# Altium footprint library PcbLib1.PcbLib: 18 footprints (part 1 of 2)
Each footprint in its own frame and in the unit in brackets; x right, y up, seen from the top. Pads: shape width x height; smd on the part's side, far side on the other; paste and mask are expansions set on the pad; w line width, h text height; cw(c..) or ccw(c..) is an arc to the next point about the centre after c.
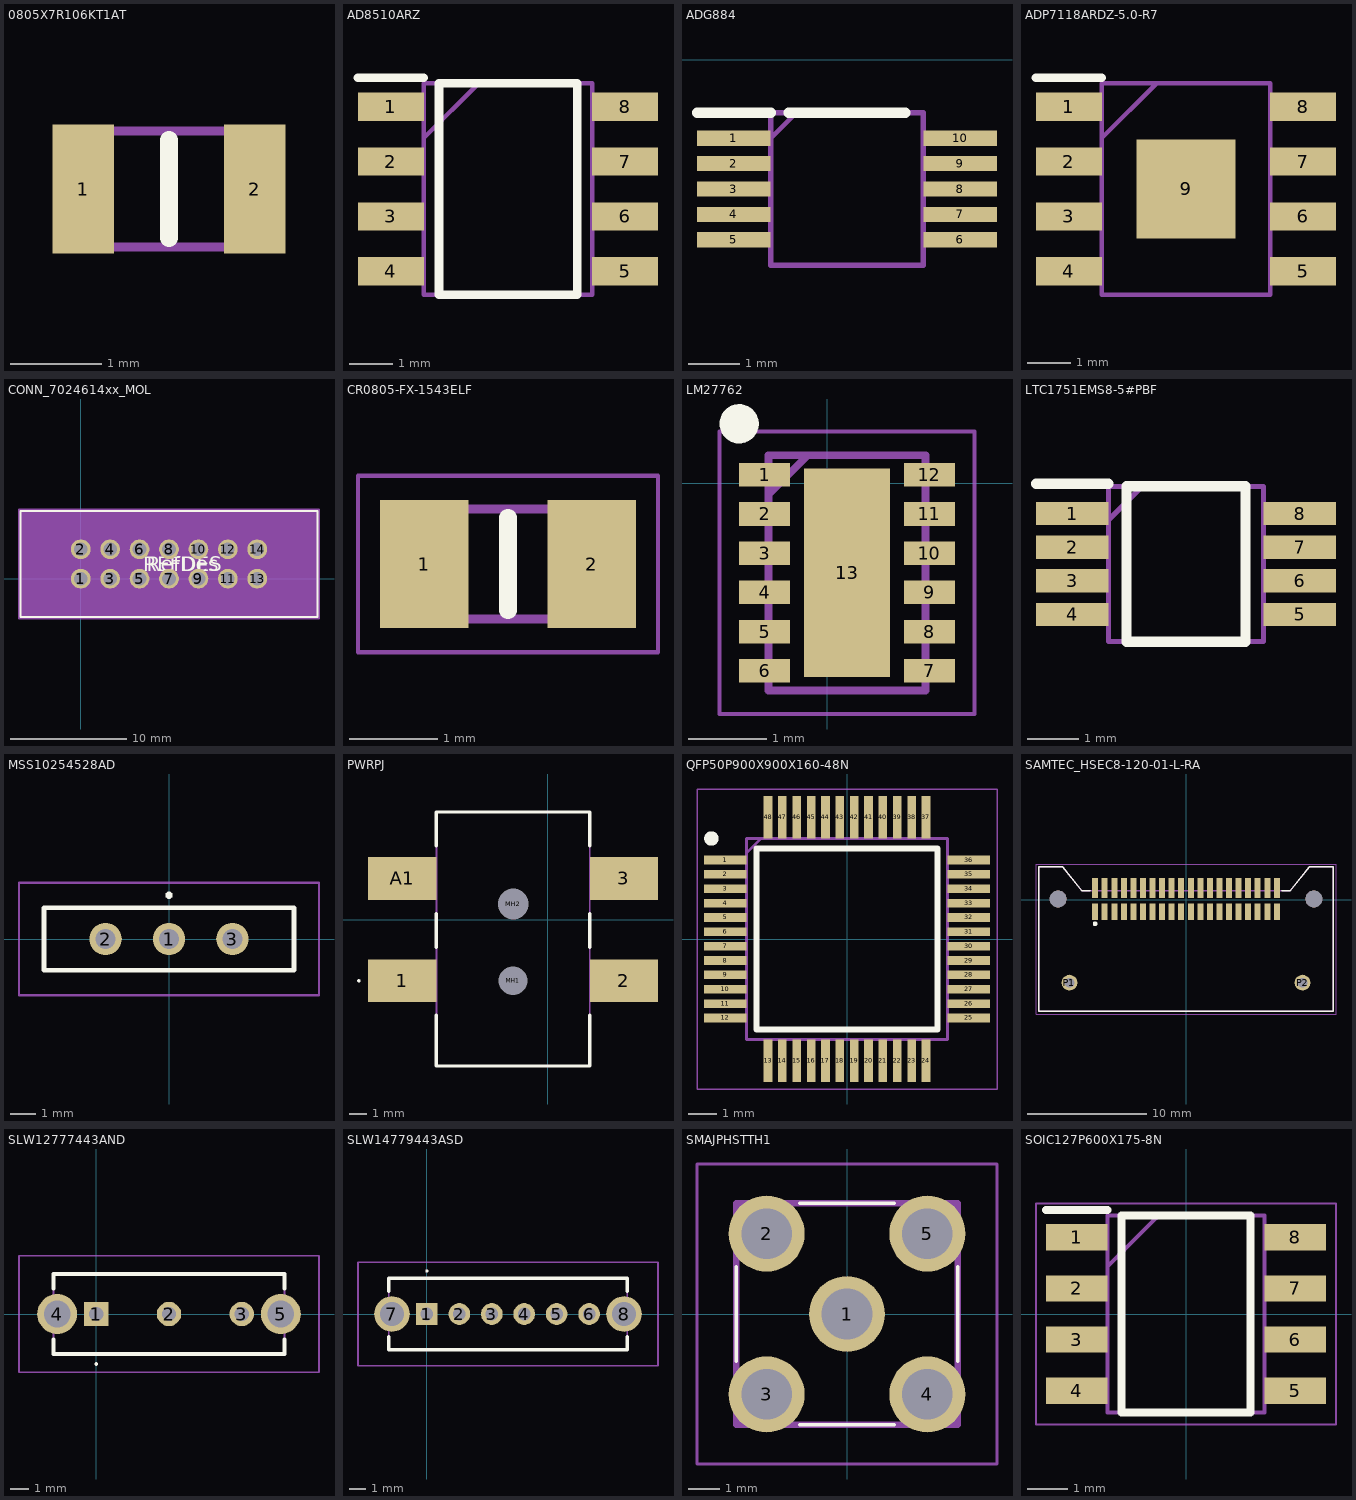
[diagram p0: the footprints below, top view; thin cyan lines are the x and y axes]

## 0805X7R106KT1AT [mm]
pads (2):
  rect 0.67x1.41 smd: 1(-336.22,87.503) 2(-334.34,87.503)
Top Overlay:
  lines w0.2: -335.28,86.968 -335.28,88.038
Mechanical 15:
  lines w0.1: -336.285,86.868 -334.275,86.868 -334.275,88.138 -336.285,88.138 -336.285,86.868
3D body "0805X7R106KT1AT.stp": height 1.13, standoff 0, extent -336.285,86.868 -334.275,88.138

## AD8510ARZ [mm]
pads (8):
  rect 1.525x0.65 smd: 1(-152.318,-23.241) 2(-152.318,-24.511) 3(-152.318,-25.781) 4(-152.318,-27.051) 5(-146.894,-27.051) 6(-146.894,-25.781) 7(-146.894,-24.511) 8(-146.894,-23.241)
Top Overlay:
  lines w0.2: -153.081,-22.566 -151.556,-22.566 ; -151.206,-27.596 -151.206,-22.696 -148.006,-22.696 -148.006,-27.596 -151.206,-27.596
Mechanical 15:
  lines w0.1: -151.556,-23.966 -150.286,-22.696 ; -151.556,-27.596 -151.556,-22.696 -147.656,-22.696 -147.656,-27.596 -151.556,-27.596
3D body "AD8510ARZ-REEL.stp": height 1.75, standoff 0, extent -152.733,-27.596 -146.733,-22.696

## ADG884 [mm]
pads (10):
  rect 1.45x0.3 smd: 1(3.49,-1.54) 2(3.49,-2.04) 3(3.49,-2.54) 4(3.49,-3.04) 5(3.49,-3.54) 6(7.94,-3.54) 7(7.94,-3.04) 8(7.94,-2.54) 9(7.94,-2.04) 10(7.94,-1.54)
Top Overlay:
  lines w0.2: 2.765,-1.04 4.215,-1.04 ; 4.565,-1.04 6.865,-1.04
Mechanical 15:
  lines w0.1: 4.215,-1.54 4.715,-1.04 ; 4.215,-4.04 7.215,-4.04 7.215,-1.04 4.215,-1.04 4.215,-4.04
3D body "ADG884BRMZ.stp": height 1.1, standoff 0, extent 3.265,-4.04 8.165,-1.04

## ADP7118ARDZ-5.0-R7 [mm]
pads (9):
  rect 1.525x0.65 smd: 1(1.987,-9.652) 2(1.987,-10.922) 3(1.987,-12.192) 4(1.987,-13.462) 5(7.411,-13.462) 6(7.411,-12.192) 7(7.411,-10.922) 8(7.411,-9.652)
  rect 2.29x2.29 smd: 9(4.699,-11.557)
Top Overlay:
  lines w0.2: 1.224,-8.977 2.749,-8.977
Mechanical 15:
  lines w0.1: 2.749,-10.377 4.019,-9.107 ; 2.749,-14.007 6.649,-14.007 6.649,-9.107 2.749,-9.107 2.749,-14.007
3D body "ADP7118ARDZ-5.0-R7.stp": height 0.85, standoff -0.9, extent 1.699,-13.97 7.699,-9.07

## CONN_7024614xx_MOL [mil]
pads (14):
  round 67 / inner round 60 / far side round 67 hole 47 paste-33.5 mask+0: 1(0,0) 2(0,100) 3(100,0) 4(100,100) 5(200,0) 6(200,100) 7(300,0) 8(300,100) 9(400,0) 10(400,100) 11(500,0) 12(500,100) 13(600,0) 14(600,100)
Top Overlay:
  lines w6: -205,-130 805,-130 805,230 -205,230 -205,-130
  text "RefDes" at 225,25 h50
  text "REFDES" at 212.5,25 h50
Mechanical 13:
  circle w20: c0,0 r15
  lines w1: -200,-125 800,-125 800,225 -200,225 -200,-125
  text "RefDes2" at 212.5,25 h50
Mechanical 15:
  region: 810,235 -210,235 -210,-135 810,-135
  lines w6: -210,-135 -210,235 810,235 810,-135 -210,-135
3D body "702461401.stp": height 279.96, standoff -220, extent -205,-125 795,225

## CR0805-FX-1543ELF [mm]
pads (2):
  rect 1x1.45 smd: 1(-53.274,37.084) 2(-51.374,37.084)
Top Overlay:
  lines w0.2: -52.324,36.559 -52.324,37.609
Mechanical 15:
  lines w0.1: -53.324,36.459 -53.324,37.709 -51.324,37.709 -51.324,36.459 -53.324,36.459
Mechanical 20:
  lines w0.05: -54.024,36.084 -54.024,38.084 -50.624,38.084 -50.624,36.084 -54.024,36.084
3D body "CR0805-FX-1543ELF.stp": height 0.6, standoff 0, extent -53.324,36.459 -51.324,37.709

## LM27762 [mm]
pads (13):
  rect 0.65x0.3 smd: 1(-0.796,0.107) 2(-0.796,-0.393) 3(-0.796,-0.893) 4(-0.796,-1.393) 5(-0.796,-1.893) 6(-0.796,-2.393) 7(1.304,-2.393) 8(1.304,-1.893) 9(1.304,-1.393) 10(1.304,-0.893) 11(1.304,-0.393) 12(1.304,0.107)
  rect 1.1x2.66 smd: 13(0.254,-1.143)
Top Overlay:
  circle w0.25: c-1.121,0.757 r0.125
Mechanical 15:
  lines w0.1: -0.746,-0.143 -0.246,0.357 ; -0.746,-2.643 1.254,-2.643 1.254,0.357 -0.746,0.357 -0.746,-2.643
Mechanical 20:
  lines w0.05: -1.371,-2.943 1.879,-2.943 1.879,0.657 -1.371,0.657 -1.371,-2.943
3D body "LM27762DSSR.stp": height 0.8, standoff 0, extent -0.796,-2.643 1.304,0.357

## LTC1751EMS8-5#PBF [mm]
pads (8):
  rect 1.4x0.45 smd: 1(3.943,-2.564) 2(3.943,-3.214) 3(3.943,-3.864) 4(3.943,-4.514) 5(8.343,-4.514) 6(8.343,-3.864) 7(8.343,-3.214) 8(8.343,-2.564)
Top Overlay:
  lines w0.2: 3.243,-1.989 4.643,-1.989 ; 4.993,-5.039 4.993,-2.039 7.293,-2.039 7.293,-5.039 4.993,-5.039
Mechanical 15:
  lines w0.1: 4.643,-2.689 5.293,-2.039 ; 4.643,-5.039 4.643,-2.039 7.643,-2.039 7.643,-5.039 4.643,-5.039

## MSS10254528AD [mm]
pads (3):
  round 1.3 hole 0.8: 1(0,0) 2(-2.54,0) 3(2.54,0)
Top Overlay:
  lines w0.2: 0,1.7 cw(c0,1.75) 0,1.8 ; 0,1.7 ccw(c0,1.75) 0,1.8 ; 0,1.7 cw(c0,1.75) 0,1.8 ; -5,-1.25 5,-1.25 5,1.25 -5,1.25 -5,-1.25
Mechanical 15:
  lines w0.1: -5,-1.25 5,-1.25 5,1.25 -5,1.25 -5,-1.25
Mechanical 20:
  lines w0.1: -6,-2.25 6,-2.25 6,2.25 -6,2.25 -6,-2.25
3D body "MSS-102545-28A-D.stp": height 7.3, standoff -5.5, extent -5,-1.25 5,1.25

## PWRPJ [mm]
pads (6):
  rect 4x2.5 smd: 1(-8.532,-3.593) 2(4.468,-3.593) 3(4.468,2.407) A1(-8.532,2.407)
  round 0.85 hole 1.7 unplated: MH1(-2.032,-3.593)
  round 0.9 hole 1.8 unplated: MH2(-2.032,0.907)
Top Overlay:
  lines w0.1: -11.132,-3.593 ccw(c-11.082,-3.593) -11.032,-3.593 ccw(c-11.082,-3.593) -11.132,-3.593
  lines w0.2: -6.532,-5.613 -6.532,-8.593 2.468,-8.593 2.468,-5.613 ; -6.532,-1.64 -6.532,0.347 ; -6.532,4.32 -6.532,6.307 2.468,6.307 2.468,4.32 ; 2.468,-1.64 2.468,0.347
Mechanical 15:
  lines w0.1: -6.532,-8.593 -6.532,6.307 2.468,6.307 2.468,-8.593 -6.532,-8.593
3D body "PJ-002AH-SMT-TR.stp": height 10.98, standoff -0.82, extent -8.255,-8.493 4.345,6.407

## QFP50P900X900X160-48N [mm]
pads (48):
  rect 1.475x0.3 smd: 1(-4.238,2.75) 2(-4.238,2.25) 3(-4.238,1.75) 4(-4.238,1.25) 5(-4.238,0.75) 6(-4.238,0.25) 7(-4.238,-0.25) 8(-4.238,-0.75) 9(-4.238,-1.25) 10(-4.238,-1.75) 11(-4.238,-2.25) 12(-4.238,-2.75) 25(4.238,-2.75) 26(4.238,-2.25) 27(4.238,-1.75) 28(4.238,-1.25) 29(4.238,-0.75) 30(4.238,-0.25) 31(4.238,0.25) 32(4.238,0.75) 33(4.238,1.25) 34(4.238,1.75) 35(4.238,2.25) 36(4.238,2.75)
  rect 0.3x1.475 smd: 13(-2.75,-4.238) 14(-2.25,-4.238) 15(-1.75,-4.238) 16(-1.25,-4.238) 17(-0.75,-4.238) 18(-0.25,-4.238) 19(0.25,-4.238) 20(0.75,-4.238) 21(1.25,-4.238) 22(1.75,-4.238) 23(2.25,-4.238) 24(2.75,-4.238) 37(2.75,4.238) 38(2.25,4.238) 39(1.75,4.238) 40(1.25,4.238) 41(0.75,4.238) 42(0.25,4.238) 43(-0.25,4.238) 44(-0.75,4.238) 45(-1.25,4.238) 46(-1.75,4.238) 47(-2.25,4.238) 48(-2.75,4.238)
Top Overlay:
  circle w0.25: c-4.725,3.5 r0.125
  lines w0.2: -3.15,-3.15 -3.15,3.15 3.15,3.15 3.15,-3.15 -3.15,-3.15
Mechanical 15:
  lines w0.1: -3.5,3 -3,3.5 ; -3.5,-3.5 -3.5,3.5 3.5,3.5 3.5,-3.5 -3.5,-3.5
Mechanical 20:
  lines w0.05: -5.225,-5.225 -5.225,5.225 5.225,5.225 5.225,-5.225 -5.225,-5.225
3D body "MSP430FR2355TPT.stp": height 1.6, standoff 0, extent -4.5,-4.5 4.5,4.5

## SAMTEC_HSEC8-120-01-L-RA [mm]
pads (44):
  rect 0.5x1.35 smd: 1(-7.6,-1) 3(-6.8,-1) 5(-6,-1) 7(-5.2,-1) 9(-4.4,-1) 11(-3.6,-1) 13(-2.8,-1) 15(-2,-1) 17(-1.2,-1) 19(-0.4,-1) 21(0.4,-1) 23(1.2,-1) 25(2,-1) 27(2.8,-1) 29(3.6,-1) 31(4.4,-1) 33(5.2,-1) 35(6,-1) 37(6.8,-1) 39(7.6,-1)
  rect 0.5x1.65 smd: 2(-7.6,1) 4(-6.8,1) 6(-6,1) 8(-5.2,1) 10(-4.4,1) 12(-3.6,1) 14(-2.8,1) 16(-2,1) 18(-1.2,1) 20(-0.4,1) 22(0.4,1) 24(1.2,1) 26(2,1) 28(2.8,1) 30(3.6,1) 32(4.4,1) 34(5.2,1) 36(6,1) 38(6.8,1) 40(7.6,1)
  round 1.318 hole 0.81: P1(-9.75,-6.925) P2(9.75,-6.925)
  round 1.4 hole 1.4 unplated: ""(-10.7,0.075) ""(10.7,0.075)
Top Overlay:
  circle w0.2: c-7.6,-2 r0.1
  lines w0.127: -8,0.75 -8.7,0.75 -10.3,2.75 -12.3,2.75 -12.3,-9.3 12.3,-9.3 12.3,2.75 10.3,2.75 8.7,0.75 8,0.75
Mechanical 13:
  lines w0.127: -10.33,2.75 -12.3,2.75 -12.3,-9.3 12.3,-9.3 12.3,2.75 10.3,2.75 8.7,0.75 -8.7,0.75 -10.3,2.75
  text "PCB EDGE" at -1.853,-9.062 h0.61
Mechanical 15:
  lines w0.05: -12.55,-9.55 12.55,-9.55 12.55,3 -12.55,3 -12.55,-9.55
3D body "HSEC8-120-01-L-RA-TR.stp": height 5.15, standoff -1.59, extent -12.3,-9.324 12.3,2.726

## SLW12777443AND [mm]
pads (5):
  rect 1.337x1.337 hole 0.78: 1(0,0)
  round 1.337 hole 0.78: 2(4,0) 3(8,0)
  round 2.19 hole 1.46: 4(-2.15,0) 5(10.15,0)
Top Overlay:
  lines w0.1: 0,-2.8 ccw(c0,-2.75) 0,-2.7 ; 0,-2.8 cw(c0,-2.75) 0,-2.7 ; 0,-2.8 ccw(c0,-2.75) 0,-2.7
  lines w0.2: -2.35,-1.4 -2.35,-2.2 10.35,-2.2 10.35,-1.4 ; -2.35,1.4 -2.35,2.2 10.35,2.2 10.35,1.4
Mechanical 15:
  lines w0.1: -2.35,-2.2 -2.35,2.2 10.35,2.2 10.35,-2.2 -2.35,-2.2
Mechanical 20:
  lines w0.1: -4.245,-3.2 -4.245,3.2 12.245,3.2 12.245,-3.2 -4.245,-3.2

## SLW14779443ASD [mm]
pads (8):
  rect 1.337x1.337 hole 0.78: 1(0,0)
  round 1.337 hole 0.78: 2(2,0) 3(4,0) 4(6,0) 5(8,0) 6(10,0)
  round 2.19 hole 1.46: 7(-2.15,0) 8(12.15,0)
Top Overlay:
  lines w0.1: 0,2.6 cw(c0,2.65) 0,2.7 cw(c0,2.65) 0,2.6
  lines w0.2: -2.35,-1.4 -2.35,-2.2 12.35,-2.2 12.35,-1.4 ; -2.35,1.4 -2.35,2.2 12.35,2.2 12.35,1.4
Mechanical 15:
  lines w0.1: -2.35,-2.2 -2.35,2.2 12.35,2.2 12.35,-2.2 -2.35,-2.2
Mechanical 20:
  lines w0.1: -4.245,-3.2 -4.245,3.2 14.245,3.2 14.245,-3.2 -4.245,-3.2

## SMAJPHSTTH1 [mm]
pads (5):
  round 2.4 hole 1.6: 1(0,0) 2(-2.54,2.54) 3(-2.54,-2.54) 4(2.54,-2.54) 5(2.54,2.54)
Top Overlay:
  lines w0.1: -3.5,-1.5 -3.5,1.5 ; -1.5,-3.5 1.5,-3.5 ; -1.5,3.5 1.5,3.5 ; 3.5,-1.5 3.5,1.5
Mechanical 15:
  lines w0.2: -3.5,-3.5 3.5,-3.5 3.5,3.5 -3.5,3.5 -3.5,-3.5
Mechanical 20:
  lines w0.1: -4.74,-4.74 4.74,-4.74 4.74,4.74 -4.74,4.74 -4.74,-4.74
3D body "SMA-J-P-H-ST-TH1.stp": height 9.55, standoff -3.95, extent -3.444,-3.5 3.556,3.5

## SOIC127P600X175-8N [mm]
pads (8):
  rect 1.525x0.65 smd: 1(-2.712,1.905) 2(-2.712,0.635) 3(-2.712,-0.635) 4(-2.712,-1.905) 5(2.712,-1.905) 6(2.712,-0.635) 7(2.712,0.635) 8(2.712,1.905)
Top Overlay:
  lines w0.2: -3.475,2.58 -1.95,2.58 ; -1.6,-2.45 1.6,-2.45 1.6,2.45 -1.6,2.45 -1.6,-2.45
Mechanical 15:
  lines w0.1: -1.95,1.18 -0.68,2.45 ; -1.95,-2.45 1.95,-2.45 1.95,2.45 -1.95,2.45 -1.95,-2.45
Mechanical 20:
  lines w0.05: -3.725,-2.75 3.725,-2.75 3.725,2.75 -3.725,2.75 -3.725,-2.75
3D body "ADA4610-2ARZ-R7.stp": height 1.75, standoff 0, extent -3,-2.45 3,2.45